# Altium footprint library RelayMux.PcbLib: 19 footprints (part 1 of 2)
Each footprint in its own frame and in the unit in brackets; x right, y up, seen from the top. Pads: shape width x height; smd on the part's side, far side on the other; paste and mask are expansions set on the pad; w line width, h text height; cw(c..) or ccw(c..) is an arc to the next point about the centre after c.
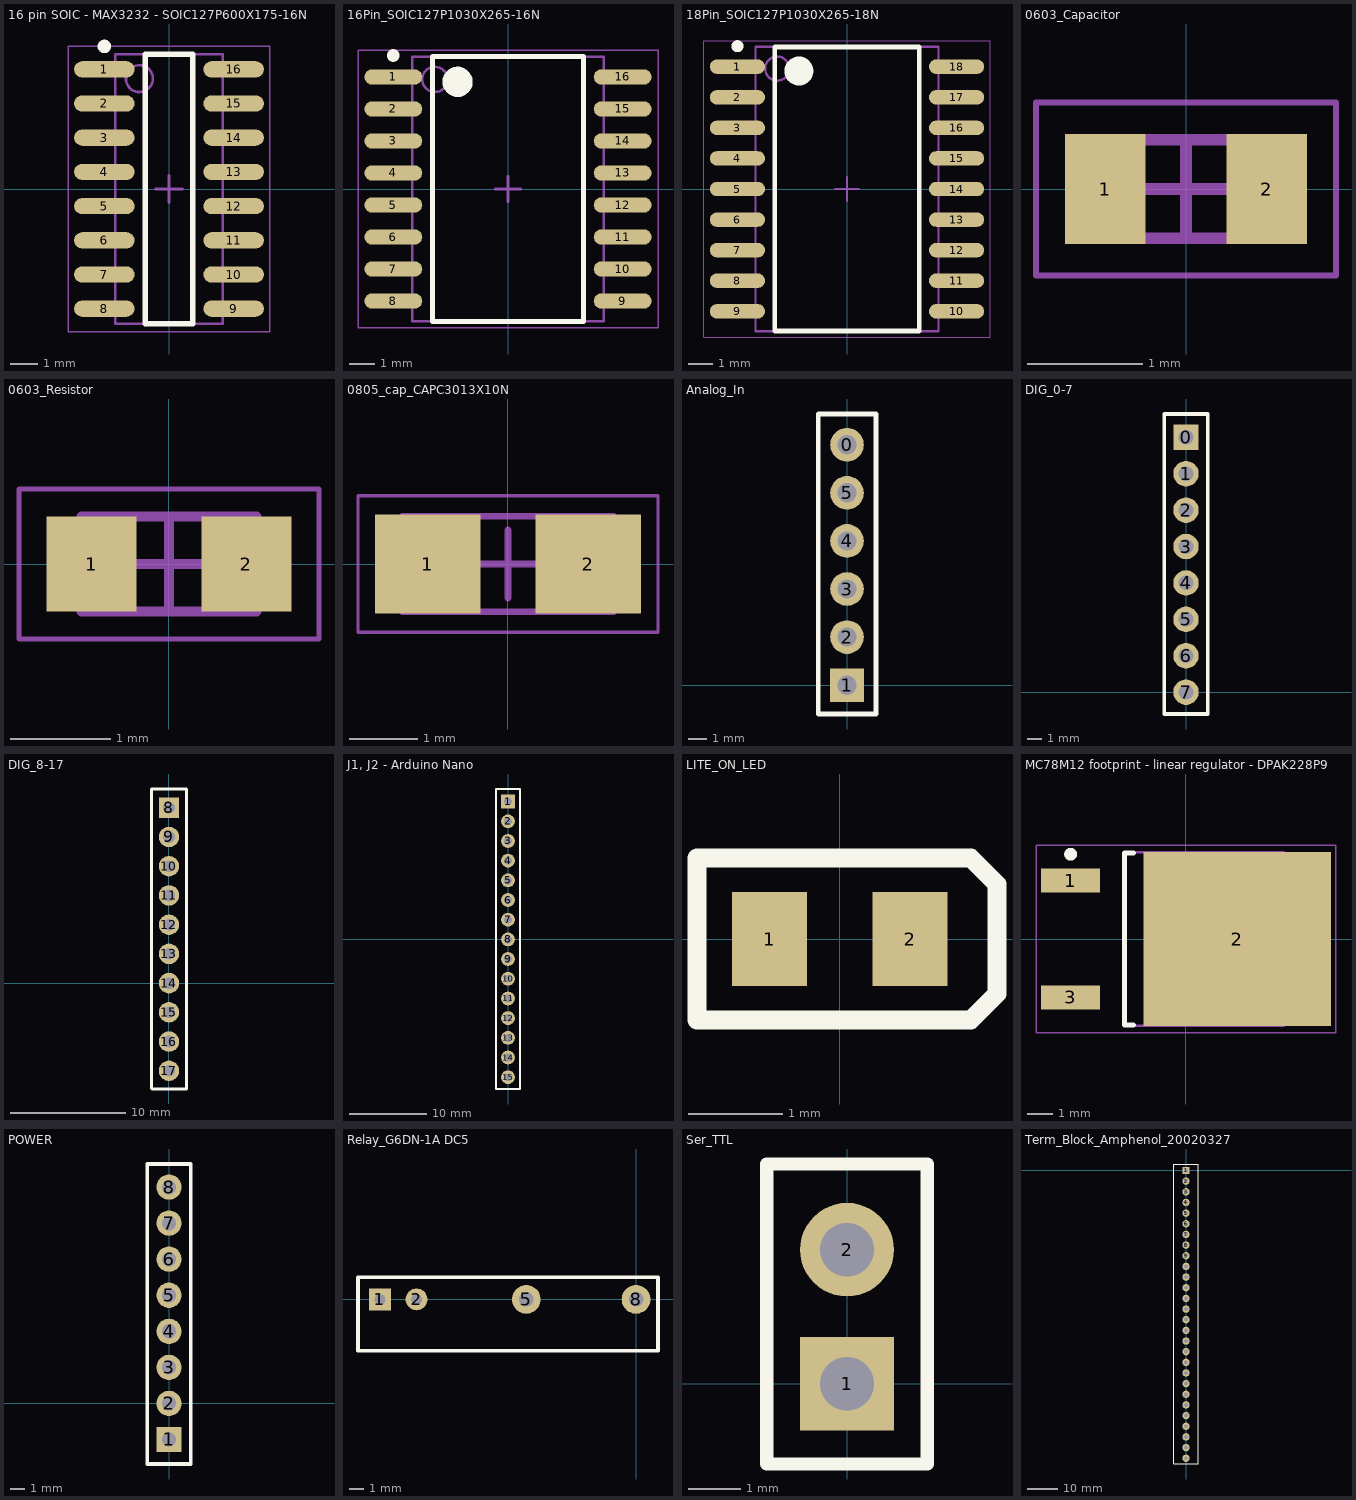
[diagram p0: the footprints below, top view; thin cyan lines are the x and y axes]

## 16 pin SOIC - MAX3232 - SOIC127P600X175-16N [mm] "SOIC, 16-Leads, Body 9.89x3.91mm, Pitch 1.27mm, IPC Medium Density"
height 1.75
pads (16):
  oval 2.25x0.6 smd: 1(-2.4,4.445) 2(-2.4,3.175) 3(-2.4,1.905) 4(-2.4,0.635) 5(-2.4,-0.635) 6(-2.4,-1.905) 7(-2.4,-3.175) 8(-2.4,-4.445) 9(2.4,-4.445) 10(2.4,-3.175) 11(2.4,-1.905) 12(2.4,-0.635) 13(2.4,0.635) 14(2.4,1.905) 15(2.4,3.175) 16(2.4,4.445)
Top Overlay:
  circle w0.25: c-2.4,5.295 r0.125
  lines w0.2: -0.875,-5 0.875,-5 0.875,5 -0.875,5 -0.875,-5
Mechanical 13:
  circle w0.1: c-1.1,4.1 r0.5
  lines w0.1: -2,-5 2,-5 2,5 -2,5 -2,-5
Mechanical 15:
  lines w0.05: -3.75,-5.3 3.75,-5.3 3.75,5.3 -3.75,5.3 -3.75,-5.3
  lines w0.1: -0.5,0 0.5,0 ; 0,-0.5 0,0.5
3D body: height 1.75, standoff 0.1, extent -2,-5 2,5

## 16Pin_SOIC127P1030X265-16N [mm] "SOIC, 16-Leads, Body 10.30x7.50mm, Pitch 1.27mm, IPC Medium Density"
height 2.65
pads (16):
  oval 2.3x0.6 smd: 1(-4.55,4.445) 2(-4.55,3.175) 3(-4.55,1.905) 4(-4.55,0.635) 5(-4.55,-0.635) 6(-4.55,-1.905) 7(-4.55,-3.175) 8(-4.55,-4.445) 9(4.55,-4.445) 10(4.55,-3.175) 11(4.55,-1.905) 12(4.55,-0.635) 13(4.55,0.635) 14(4.55,1.905) 15(4.55,3.175) 16(4.55,4.445)
Top Overlay:
  circle w0.25: c-4.55,5.295 r0.125
  circle w0.6: c-2,4.25 r0.3
  lines w0.2: -3,-5.25 -3,5.25 3,5.25 3,-5.25 -3,-5.25
Mechanical 13:
  circle w0.1: c-2.9,4.35 r0.5
  lines w0.1: -3.8,-5.25 -3.8,5.25 3.8,5.25 3.8,-5.25 -3.8,-5.25
Mechanical 15:
  lines w0.05: -5.95,-5.5 -5.95,5.5 5.95,5.5 5.95,-5.5 -5.95,-5.5
  lines w0.1: -0.5,0 0.5,0 ; 0,-0.5 0,0.5
3D body: height 2.65, standoff 0.1, extent -3.8,-5.25 3.8,5.25

## 18Pin_SOIC127P1030X265-18N [mm] "SOIC, 18-Leads, Body 11.55x7.50mm, Pitch 1.27mm, IPC Medium Density"
height 2.65
pads (18):
  oval 2.3x0.6 smd: 1(-4.55,5.08) 2(-4.55,3.81) 3(-4.55,2.54) 4(-4.55,1.27) 5(-4.55,0) 6(-4.55,-1.27) 7(-4.55,-2.54) 8(-4.55,-3.81) 9(-4.55,-5.08) 10(4.55,-5.08) 11(4.55,-3.81) 12(4.55,-2.54) 13(4.55,-1.27) 14(4.55,0) 15(4.55,1.27) 16(4.55,2.54) 17(4.55,3.81) 18(4.55,5.08)
Top Overlay:
  circle w0.6: c-2,4.9 r0.3
  circle w0.25: c-4.55,5.93 r0.125
  lines w0.2: -3,-5.9 3,-5.9 3,5.9 -3,5.9 -3,-5.9
Mechanical 13:
  circle w0.1: c-2.9,5 r0.5
  lines w0.1: -3.8,-5.9 3.8,-5.9 3.8,5.9 -3.8,5.9 -3.8,-5.9
Mechanical 15:
  lines w0.05: -5.95,-6.15 5.95,-6.15 5.95,6.15 -5.95,6.15 -5.95,-6.15
  lines w0.1: -0.5,0 0.5,0 ; 0,-0.5 0,0.5
3D body: height 2.65, standoff 0.1, extent -3.8,-5.9 3.8,5.9

## 0603_Capacitor [mm]
pads (2):
  rect 0.7x0.95 smd: 1(-0.7,0) 2(0.7,0)
Mechanical 13:
  lines w0.1: -0.825,-0.425 0.825,-0.425 0.825,0.425 -0.825,0.425 -0.825,-0.425
Mechanical 15:
  lines w0.05: -1.3,-0.75 1.3,-0.75 1.3,0.75 -1.3,0.75 -1.3,-0.75
  lines w0.1: -0.425,0 0.425,0 ; 0,-0.425 0,0.425
3D body: height 0.6, standoff 0, extent 0.475,-0.425 0.825,0.425
3D body: height 0.6, standoff 0, extent -0.825,-0.425 -0.475,0.425
3D body: height 0.6, standoff 0, extent -0.475,-0.425 0.475,0.425

## 0603_Resistor [mm]
pads (2):
  rect 0.9x0.95 smd: 1(-0.775,0) 2(0.775,0)
Mechanical 13:
  lines w0.1: -0.875,-0.475 0.875,-0.475 0.875,0.475 -0.875,0.475 -0.875,-0.475
Mechanical 15:
  lines w0.05: -1.5,-0.75 1.5,-0.75 1.5,0.75 -1.5,0.75 -1.5,-0.75
  lines w0.1: -0.475,0 0.475,0 ; 0,-0.475 0,0.475
3D body: height 0.6, standoff 0, extent 0.575,-0.475 0.875,0.475
3D body: height 0.6, standoff 0, extent -0.875,-0.475 -0.575,0.475
3D body: height 0.6, standoff 0, extent -0.575,-0.475 0.575,0.475

## 0805_cap_CAPC3013X10N [mm] "Chip Capacitor, 2-Leads, Body 3.00x1.27mm, IPC Medium Density"
height 1
pads (2):
  rect 1.55x1.45 smd: 1(-1.175,0) 2(1.175,0)
Mechanical 13:
  lines w0.1: -1.55,-0.7 -1.55,0.7 1.55,0.7 1.55,-0.7 -1.55,-0.7
Mechanical 15:
  lines w0.05: -2.2,-1 -2.2,1 2.2,1 2.2,-1 -2.2,-1
  lines w0.1: -0.5,0 0.5,0 ; 0,-0.5 0,0.5
3D body: height 1, standoff 0, extent -0.55,-0.7 0.55,0.7
3D body: height 1, standoff 0, extent -1.55,-0.7 -0.55,0.7
3D body: height 1, standoff 0, extent 0.55,-0.7 1.55,0.7

## Analog_In [mil]
pads (6):
  round 70 hole 40: 0(0,500) 2(0,100) 3(0,200) 4(0,300) 5(0,400)
  rect 70x70 hole 40: 1(0,0)
Top Overlay:
  lines w10: -60,-60 -60,564 60,564 60,-60 -60,-60

## DIG_0-7 [mil]
pads (8):
  rect 70x70 hole 40: 0(0,700)
  round 70 hole 40: 1(0,600) 2(0,500) 3(0,400) 4(0,300) 5(0,200) 6(0,100) 7(0,0)
Top Overlay:
  lines w10: -60,-60 60,-60 60,764 -60,764 -60,-60

## DIG_8-17 [mil]
pads (10):
  rect 70x70 hole 40: 8(0,600)
  round 70 hole 40: 9(0,500) 10(0,400) 11(0,300) 12(0,200) 13(0,100) 14(0,0) 15(0,-100) 16(0,-200) 17(0,-300)
Top Overlay:
  lines w10: -60,-360 -57.8,-362.2 60,-362.2 60,664 -60,664 -60,-360

## J1, J2 - Arduino Nano [mil]
pads (15):
  rect 70x70 hole 40: 1(0,700)
  round 70 hole 40: 2(0,600) 3(0,500) 4(0,400) 5(0,300) 6(0,200) 7(0,100) 8(0,0) 9(0,-100) 10(0,-200) 11(0,-300) 12(0,-400) 13(0,-500) 14(0,-600) 15(0,-700)
Top Overlay:
  lines w10: -60,-760 -60,764 60,764 60,-760 -60,-760

## LITE_ON_LED [mm]
pads (2):
  rect 0.8x1 smd: 1(-0.75,0) 2(0.75,0)
Top Overlay:
  lines w0.2: -1.524,-0.864 1.397,-0.864 1.676,-0.584 1.676,0.584 1.397,0.864 -1.524,0.864 -1.524,-0.864

## MC78M12 footprint - linear regulator - DPAK228P992X238-3N [mm] "D-PAK, 3-Pads, Body 6.21x6.73mm (max), IPC Medium Density"
height 2.38
pads (3):
  rect 2.3x0.95 smd: 1(-4.5,2.28) 3(-4.5,-2.28)
  rect 7.3x6.8 smd: 2(2,0)
Top Overlay:
  circle w0.25: c-4.5,3.305 r0.125
  lines w0.2: -2.05,-3.35 -2.4,-3.35 -2.4,3.35 -2.05,3.35
Mechanical 13:
  lines w0.1: -2.4,-3.375 -2.4,3.375 3.82,3.375 3.82,-3.375 -2.4,-3.375
Mechanical 15:
  lines w0.05: -5.85,-3.65 -5.85,3.65 5.85,3.65 5.85,-3.65 -5.85,-3.65
  lines w0.1: -0.5,0 0.5,0 ; 0,-0.5 0,0.5
3D body: height 2.38, standoff 0, extent -2.4,-3.375 3.82,3.375

## POWER [mil]
pads (8):
  rect 70x70 hole 40: 1(0,-100)
  round 70 hole 40: 2(0,0) 3(0,100) 4(0,200) 5(0,300) 6(0,400) 7(0,500) 8(0,600)
Top Overlay:
  lines w10: -60,-168 -60,664 60,664 60,-168 -60,-168

## Relay_G6DN-1A DC5 [mil]
pads (4):
  rect 60x60 hole 30: 1(-700,0)
  round 60 hole 30: 2(-600,0)
  round 78.74 hole 39.37: 5(-300,0) 8(0,0)
Top Overlay:
  lines w10: -760,-140 -760,60 60,60 60,-140 -760,-140

## Ser_TTL [mil]
pads (2):
  rect 70x70 hole 40: 1(0,0)
  round 70 hole 40: 2(0,100)
Top Overlay:
  lines w10: -60,-60 -60,164 60,164 60,-60 -60,-60

## Term_Block_Amphenol_20020327 [mil] "24 pos, 3.81 mm pitch, screw term"
height 330
pads (28):
  rect 96x96 hole 51: 1(0,0)
  round 96 hole 51: 2(0,-137.8) 3(0,-275.59) 4(0,-413.39) 5(0,-551.18) 6(0,-688.98) 7(0,-826.77) 8(0,-964.57) 9(0,-1102.36) 10(0,-1240.16) 11(0,-1377.95) 12(0,-1515.75) 13(0,-1653.54) 14(0,-1791.34) 15(0,-1929.13) 16(0,-2066.93) 17(0,-2204.72) 18(0,-2342.52) 19(0,-2480.32) 20(0,-2618.11) 21(0,-2755.91) 22(0,-2893.7) 23(0,-3031.5) 24(0,-3169.29) 25(0,-3307.09) 26(0,-3444.88) 27(0,-3582.68) 28(0,-3720.47)
Top Overlay:
  lines w10: -160,-3795 160,-3795 160,84 -160,84 -160,-3795